# EAGLE library part MAX3378E (library max33xxE_lvl_shifters)
MAX3378E/MAX3377E Bi-directional 4-bit low-voltage level translator MAX3378E has 8Mbps max speed. MAX3377E has 230kbps max speed
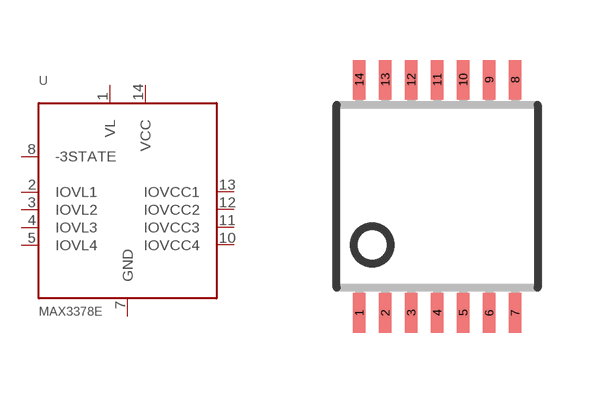
[diagram p0: symbol with the pads of TSSOP14; footprint TSSOP14]

Designator prefix -

## MAX3378E  [TSSOP14]
1  VL
2  IOVL1
3  IOVL2
4  IOVL3
5  IOVL4
7  GND
8  -3STATE
10  IOVCC4
11  IOVCC3
12  IOVCC2
13  IOVCC1
14  VCC

## Footprint TSSOP14 (pad centres in mm)
TSSOP-14 Think Shrink Small Outline Package 14 pins
smd 0.305 x 0.991: 1 -1.95,-2.918; 2 -1.3,-2.918; 3 -0.65,-2.918; 4 0,-2.918; 5 0.65,-2.918; 6 1.3,-2.918; 7 1.95,-2.918; 8 1.95,2.918; 9 1.3,2.918; 10 0.65,2.918; 11 0,2.918; 12 -0.65,2.918; 13 -1.3,2.918; 14 -1.95,2.918